# EAGLE library part PXC-8-RA-1778683 (library CONN, Phoenix Contact PTSM 8 pin)
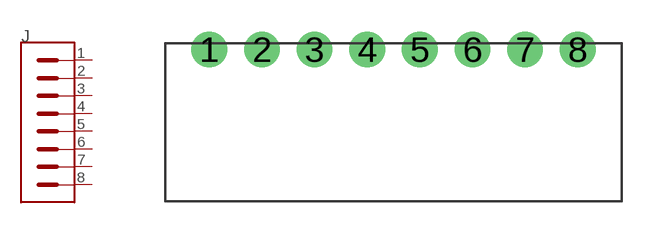
[diagram p1: symbol with the pads of PXC-8-RA-1778683; footprint PXC-8-RA-1778683]

Designator prefix J

## PXC-8-RA-1778683  [PXC-8-RA-1778683]
1  1  pas
2  2  pas
3  3  pas
4  4  pas
5  5  pas
6  6  pas
7  7  pas
8  8  pas

## Footprint PXC-8-RA-1778683 (pad centres in mm)
drill 1 pad 1.7: 1 2.1,7.2; 2 4.6,7.2; 3 7.1,7.2; 4 9.6,7.2; 5 12.1,7.2; 6 14.6,7.2; 7 17.1,7.2; 8 19.6,7.2